# Altium footprint library WeAct-ESP32-S3-B.PcbLib: 1 footprints
Each footprint in its own frame and in the unit in brackets; x right, y up, seen from the top. Pads: shape width x height; smd on the part's side, far side on the other; paste and mask are expansions set on the pad; w line width, h text height; cw(c..) or ccw(c..) is an arc to the next point about the centre after c.
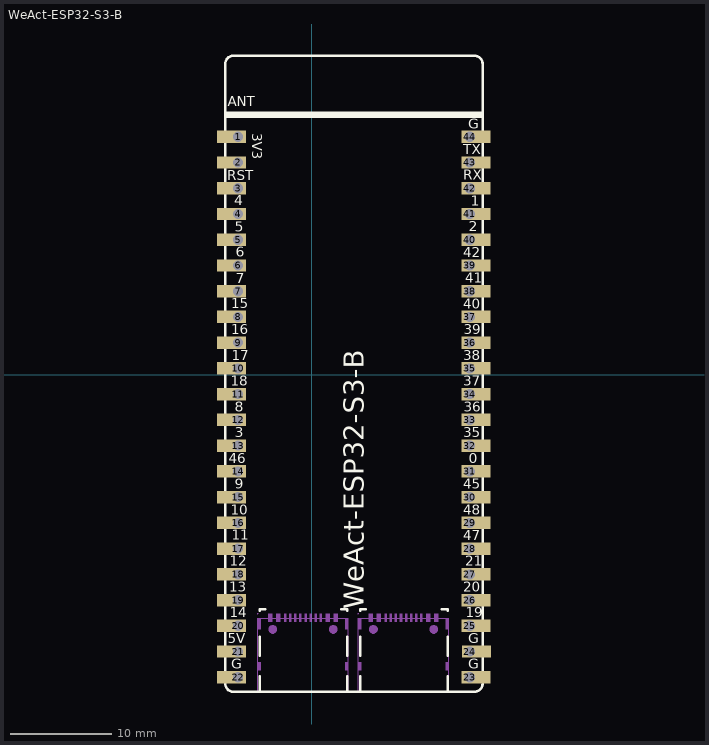
[diagram p0: the footprint, top view; thin cyan lines are the x and y axes]

## WeAct-ESP32-S3-B [mil]
pads (44):
  rect 113x48 hole 39.4 copper offset -25,0 paste+0 mask+2: 1(-285.81,924.91) 2(-285.81,824.91) 3(-285.81,724.91) 4(-285.81,624.91) 5(-285.81,524.91) 6(-285.81,424.91) 7(-285.81,324.91) 8(-285.81,224.91) 9(-285.81,124.91) 10(-285.81,24.91) 11(-285.81,-75.09) 12(-285.81,-175.09) 13(-285.81,-275.09) 14(-285.81,-375.09) 15(-285.81,-475.09) 16(-285.81,-575.09) 17(-285.81,-675.09) 18(-285.81,-775.09) 19(-285.81,-875.09) 20(-285.81,-975.09) 21(-285.81,-1075.09) 22(-285.81,-1175.09)
  rect 113x48 hole 39.4 copper offset 25,0 paste+0 mask+2: 23(614.19,-1175.09) 24(615,-1075) 25(614.19,-975.09) 26(614.19,-875.09) 27(614.19,-775.09) 28(614.19,-675.09) 29(614.19,-575.09) 30(614.19,-475.09) 31(614.19,-375.09) 32(614.19,-275.09) 33(614.19,-175.09) 34(614.19,-75.09) 35(614.19,24.91) 36(614.19,124.91) 37(614.19,224.91) 38(614.19,324.91) 39(614.19,424.91) 40(614.19,524.91) 41(614.19,624.91) 42(614.19,724.91) 43(614.19,824.91) 44(614.19,924.91)
Top Overlay:
  lines w10: -329.69,1010.19 663.31,1010.19 ; -329.69,1018.19 663.31,1018.19 ; -328.81,1002.19 664.19,1002.19 ; -201.82,-1171.7 -201.82,-1230.81 138.18,-1230.81 138.18,-1171.7 ; -201.82,-1090.51 -201.82,-1016.98 ; -201.82,-916.1 -201.82,-910.81 -179.71,-910.81 ; 115.86,-910.81 138.18,-910.81 138.18,-916.1 ; 138.18,-1090.51 138.18,-1016.98 ; 188.72,-1171.7 188.72,-1230.81 528.72,-1230.81 528.72,-1171.7 ; 188.72,-1090.51 188.72,-1016.98 ; 188.72,-916.1 188.72,-910.81 210.84,-910.81 ; 506.4,-910.81 528.72,-910.81 528.72,-916.1 ; 528.72,-1090.51 528.72,-1016.98 ; -335.81,-1199.32 ccw(c-304.32,-1199.32) -304.32,-1230.81 632.69,-1230.81 ccw(c632.69,-1199.32) 664.19,-1199.32 664.19,1207.77 ccw(c632.69,1207.77) 632.69,1239.27 -304.32,1239.27 ccw(c-304.32,1207.77) -335.81,1207.77 -335.81,-1199.32
  text "G" at -313.21,-1142.82 h39.22
  text "G" at 609.21,-1042.79 h39.22
  text "G" at 609.21,-1142.79 h39.22
  text "38" at 589.55,57.35 h38.94
  text "36" at 590.4,-142.65 h38.94
  text "35" at 589.55,-242.65 h38.94
  text "0" at 610.06,-342.79 h39.22
  text "45" at 588.75,-442.65 h38.94
  text "48" at 588.75,-542.65 h38.94
  text "37" at 589.55,-42.65 h38.94
  text "TX" at 589.55,857.35 h38.94
  text "RX" at 589.55,757.35 h38.94
  text "1" at 617.66,657.21 h39.22
  text "2" at 610.06,557.21 h39.22
  text "42" at 588.75,457.35 h38.94
  text "41" at 596.3,357.35 h38.94
  text "40" at 588.75,257.35 h38.94
  text "G" at 609.21,955.21 h39.22
  text "39" at 590.4,157.35 h38.94
  text "21" at 597.15,-742.65 h38.94
  text "20" at 589.55,-842.65 h38.94
  text "19" at 598,-942.65 h38.94
  text "47" at 588.75,-642.65 h38.94
  text "3V3" at -231.62,939.35 h38.94
  text "RST" at -328.26,756.35 h38.94
  text "8" at -297.94,-143.79 h39.22
  text "18" at -314.55,-42.65 h38.94
  text "11" at -309.55,-641.65 h38.94
  text "10" at -314.55,-543.65 h38.94
  text "9" at -298.94,-441.79 h39.22
  text "3" at -297.94,-242.79 h39.22
  text "4" at -299.94,658.21 h39.22
  text "14" at -317.55,-942.65 h38.94
  text "5V" at -325.55,-1042.65 h38.94
  text "13" at -319.55,-842.65 h38.94
  text "12" at -318.55,-741.65 h38.94
  text "46" at -322.55,-342.65 h38.94
  text "16" at -312.55,157.35 h38.94
  text "15" at -311.55,258.35 h38.94
  text "7" at -294.94,355.21 h39.22
  text "6" at -294.94,458.21 h39.22
  text "5" at -298.94,556.21 h39.22
  text "17" at -310.55,56.35 h38.94
  text "WeAct-ESP32-S3-B" at 203.36,-911.11 h77.88
  text "ANT" at -326.14,1042.51 h38.94
Mechanical 15:
  drawing of 50 lines, arcs and shapes, not listed